# EAGLE library part C702_10M008_230_40 (library SamacSys_Parts)
AMPHENOL SINE/TUCHEL - C702 10M008 230 40 - SMART CARD, C702, WIPING XXS Source: Datasheet <https://componentsearchengine.com/Datasheets/1/C702 10M008 230 40.pdf>
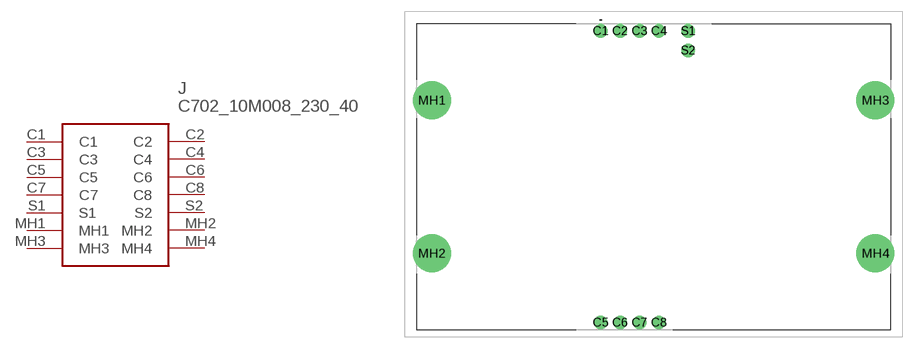
[diagram p3: symbol with the pads of C70210M00823040; footprint C70210M00823040]

Designator prefix J

## C702_10M008_230_40 (Description: AMPHENOL SINE/TUCHEL - C702 10M008 230 40 - SMART CARD, C702, WIPING XXS; Height: 6mm; Manufacturer_Name: Amphenol; Manufacturer_Part_Number: C702 10M008 230 40; Mouser_Part_Number: 523-C70210M00823040)  [C70210M00823040]
C1  C1
C2  C2
C3  C3
C4  C4
C5  C5
C6  C6
C7  C7
C8  C8
MH1  MH1
MH2  MH2
MH3  MH3
MH4  MH4
S1  S1
S2  S2

## Footprint C70210M00823040 (pad centres in mm)
C702 10M008 230 40
drill 1.15 pad 1.725: C1 -6.92,19.05; C2 -4.38,19.05; C3 -1.84,19.05; C4 0.7,19.05; C5 -6.92,-19.05; C6 -4.38,-19.05; C7 -1.84,-19.05; C8 0.7,-19.05; S1 4.51,19.05; S2 4.51,16.51
drill 3.3 pad 4.95: MH1 -29,10; MH2 -29,-10; MH3 29,10; MH4 29,-10